# Altium footprint library STLink_V2_Design1.PcbLib: 15 footprints
Each footprint in its own frame and in the unit in brackets; x right, y up, seen from the top. Pads: shape width x height; smd on the part's side, far side on the other; paste and mask are expansions set on the pad; w line width, h text height; cw(c..) or ccw(c..) is an arc to the next point about the centre after c.
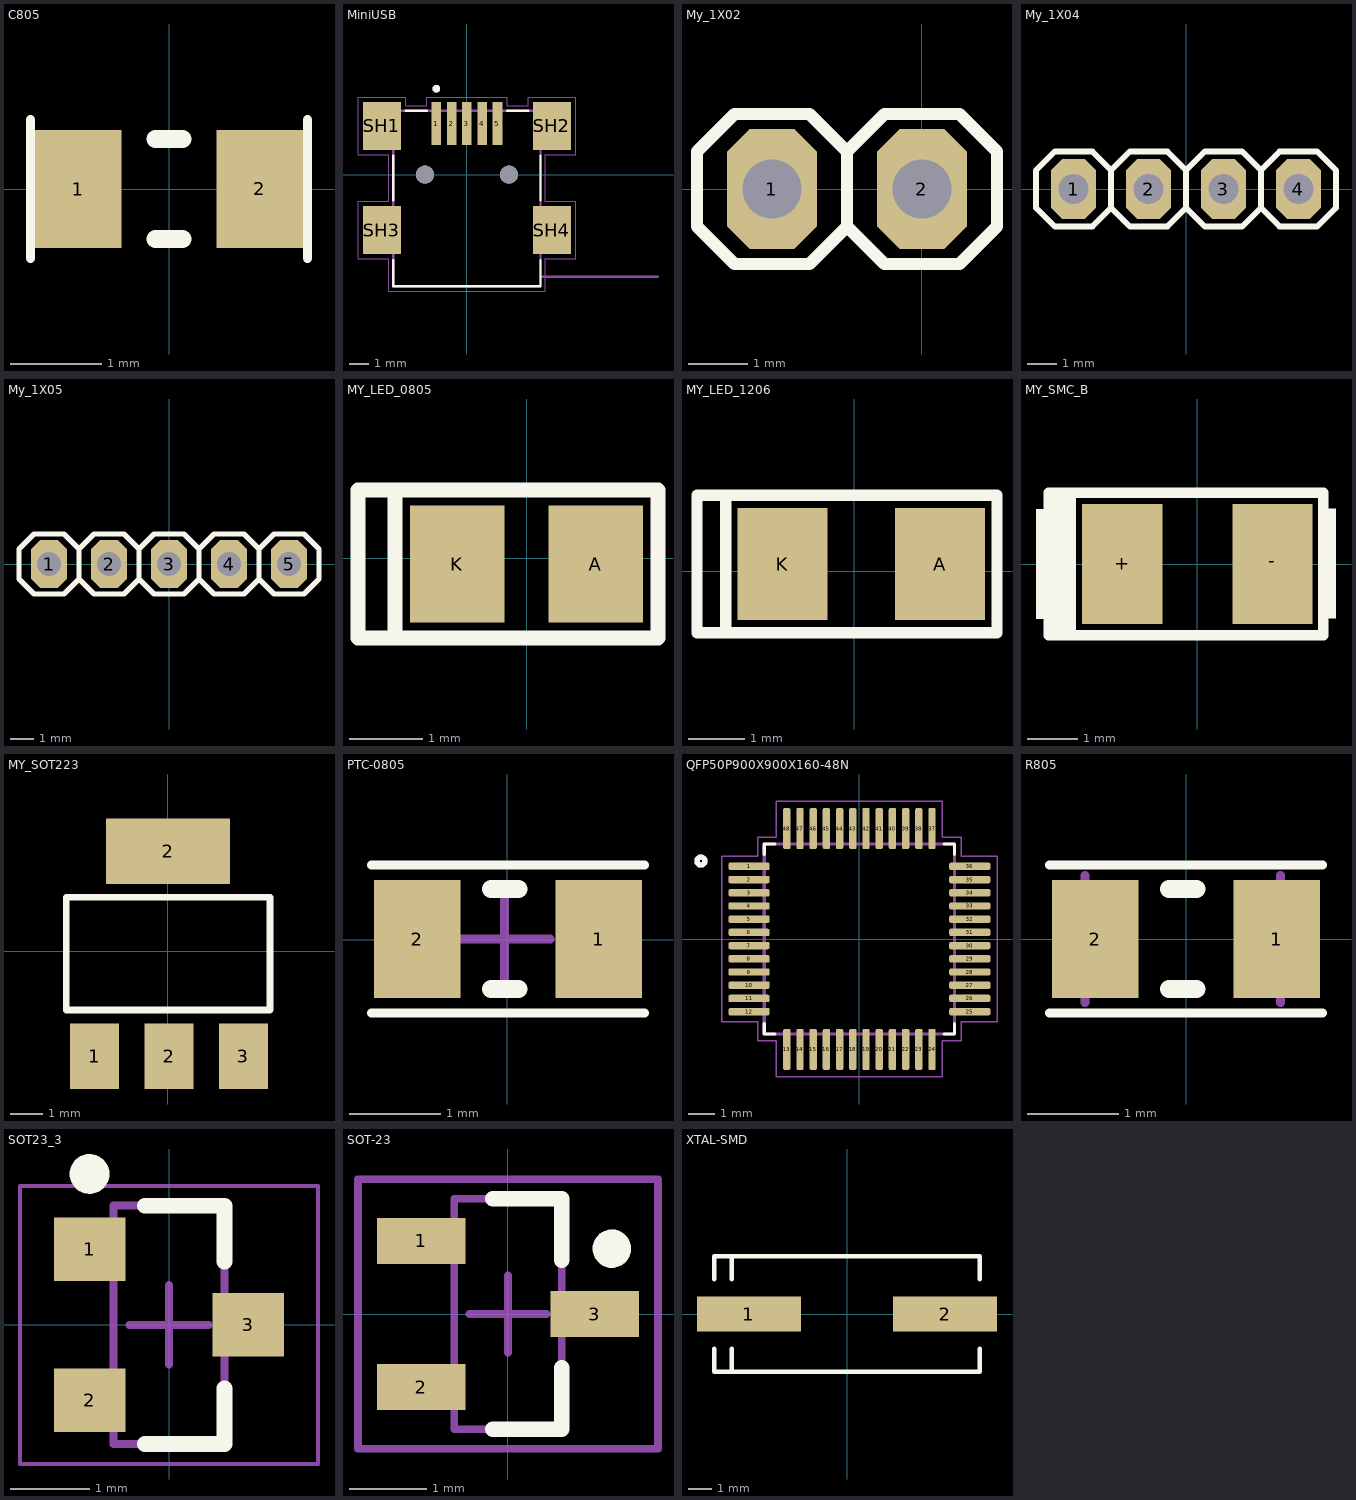
[diagram p0: the footprints below, top view; thin cyan lines are the x and y axes]

## C805 [mm]
pads (2):
  rect 0.95x1.3 smd: 1(-1,0) 2(1,0)
Top Overlay:
  lines w0.1: -1.524,-0.762 -1.524,0.762 ; 1.524,-0.762 1.524,0.762
  lines w0.2: -0.15,-0.55 0.15,-0.55 ; -0.15,0.55 0.15,0.55
3D body "User Library-0805 SMD Resistor (2).SLDPRT": height 0.78, standoff 0, extent -1,-0.625 1,0.625

## MiniUSB [mm]
pads (11):
  rect 0.5x2.25 smd: 1(-1.6,2.675) 2(-0.8,2.675) 3(0,2.675) 4(0.8,2.675) 5(1.6,2.675)
  rect 2x2.5 smd: SH1(-4.45,2.55) SH2(4.45,2.55) SH3(-4.45,-2.9) SH4(4.45,-2.9)
  round 0.95 hole 0.95 unplated: ""(-2.2,0) ""(2.2,0)
Top Overlay:
  circle w0.2: c-1.6,4.5 r0.1
  lines w0.127: -3.85,-4.47 -3.85,-5.85 3.85,-5.85 3.85,-4.47 ; -3.85,-1.33 -3.85,0.98 ; -3.21,3.35 -2.1,3.35 ; 2.1,3.35 3.21,3.35 ; 3.85,-1.33 3.85,0.98
Mechanical 13:
  circle w0.2: c-1.6,4.5 r0.1
  lines w0.127: 10,-5.34 3.85,-5.34 ; 3.85,-5.34 3.85,3.35 -3.85,3.35 -3.85,-5.85 3.85,-5.85 3.85,-5.34
Mechanical 15:
  lines w0.05: -5.7,-4.4 -4.1,-4.4 -4.1,-6.1 4.1,-6.1 4.1,-4.4 5.7,-4.4 5.7,-1.4 4.1,-1.4 4.1,1.05 5.7,1.05 5.7,4.05 3.2,4.05 3.2,3.6 2.1,3.6 2.1,4.05 -2.1,4.05 -2.1,3.6 -3.2,3.6 -3.2,4.05 -5.7,4.05 -5.7,1.05 -4.1,1.05 -4.1,-1.4 -5.7,-1.4 -5.7,-4.4
3D body "step_temp.STEP": height 3.95, standoff -1.05, extent -4.95,-5.85 4.95,3.47

## My_1X02 [mil]
pads (2):
  oct 60x80 hole 39.37: 1(-100,0) 2(0,0)
Top Overlay:
  lines w8: -50,-25 -50,25 ; -50,-25 -75,-50 -125,-50 -150,-25 -150,25 -125,50 -75,50 -50,25 ; -50,-25 -25,-50 25,-50 50,-25 50,25 25,50 -25,50 -50,25
3D body "pin_header_aw140-eg-g02d.stp": height 323.43, standoff -117.51, extent -150,-51.21 46.07,47.22

## My_1X04 [mil]
pads (4):
  oct 60x80 hole 39.37: 1(-150,0) 2(-50,0) 3(50,0) 4(150,0)
Top Overlay:
  lines w8: -100,-25 -100,25 ; -100,-25 -125,-50 -175,-50 -200,-25 -200,25 -175,50 -125,50 -100,25 ; -100,-25 -75,-50 -25,-50 0,-25 ; -100,25 -75,50 -25,50 0,25 ; 0,-25 25,-50 75,-50 100,-25 ; 0,-25 0,25 ; 0,25 25,50 75,50 100,25 ; 100,-25 100,25 ; 100,-25 125,-50 175,-50 200,-25 200,25 175,50 125,50 100,25
3D body "pin_header_aw140-eg-g04d.stp": height 323.43, standoff -117.52, extent -199.99,-49.21 196.07,49.22

## My_1X05 [mil]
pads (5):
  oct 60x80 hole 39.37: 1(-200,0) 2(-100,0) 3(0,0) 4(100,0) 5(200,0)
Top Overlay:
  lines w8: -150,-25 -150,25 ; -150,-25 -175,-50 -225,-50 -250,-25 -250,25 -225,50 -175,50 -150,25 ; -150,-25 -125,-50 -75,-50 -50,-25 ; -150,25 -125,50 -75,50 -50,25 ; -50,-25 -25,-50 25,-50 50,-25 ; -50,-25 -50,25 ; -50,25 -25,50 25,50 50,25 ; 50,-25 50,25 ; 50,-25 75,-50 125,-50 150,-25 ; 50,25 75,50 125,50 150,25 ; 150,-25 150,25 ; 150,-25 175,-50 225,-50 250,-25 250,25 225,50 175,50 150,25
3D body "pin_header_aw140-eg-g05d.stp": height 323.43, standoff -117.52, extent -249.99,-49.2 246.07,49.22

## MY_LED_0805 [mm]
pads (2):
  rect 1.3x1.6 smd: A(0.95,-0.076) K(-0.95,-0.076)
Top Overlay:
  lines w0.203: -2.311,0.94 -2.311,-1.092 -1.803,-1.092 ; -2.286,0.94 -1.803,0.94 ; -1.803,-1.092 -1.803,0.94 ; -1.803,-1.092 1.803,-1.092 1.803,0.94 -1.803,0.94
3D body "SW3dPS-LED SMD0805.STEP": height 0.86, standoff 0.01, extent -1.057,-0.483 1.006,0.424

## MY_LED_1206 [mm]
pads (2):
  rect 1.6x2 smd: A(1.527,0.127) K(-1.273,0.127)
Top Overlay:
  lines w0.203: -2.286,-1.092 2.54,-1.092 2.54,1.346 -2.286,1.346 ; -2.286,-1.092 -2.286,1.346 ; -2.286,-1.092 -2.794,-1.092 -2.794,1.346 -2.286,1.346
3D body "SW3dPS-LED1206R.STEP": height 1.12, standoff -0.4, extent -1.448,-0.711 1.752,0.889

## MY_SMC_B [mm]
pads (2):
  rect 1.6x2.4 smd: +(-1.5,0) -(1.5,0)
Top Overlay:
  rectangle: -3.223,-1.1 -3.023,1.1
  region: 2.769,1.108 2.569,1.108 2.569,-1.092 2.769,-1.092
  rectangle: -3.073,-1.35 -2.423,1.35
  lines w0.203: 2.464,-1.422 -2.972,-1.422 -2.972,1.422 2.464,1.422 ; 2.514,-1.422 2.514,1.422
3D body "SW3dPS-cap_b.STEP": height 1.93, standoff 0.02, extent -1.746,-1.4 1.746,1.4

## MY_SOT223 [mil]
pads (4):
  rect 59x79 smd: 1(-88.65,-126.69) 2(1.35,-126.69) 3(91.35,-126.69)
  rect 150x79 smd: 2(0.35,121.31)
Top Overlay:
  lines w8: -122.64,-70.76 -122.64,65.46 123.34,65.46 123.34,-70.76 -122.64,-70.76
3D body "SW3dPS-SOT-223-1.STEP": height 65.56, standoff 0.6, extent -127.95,-144.79 127.96,130.8

## PTC-0805 [mm]
pads (2):
  rect 0.95x1.3 smd: 1(1.008,0.009) 2(-0.992,0.009)
Top Overlay:
  lines w0.1: -1.492,-0.804 1.508,-0.804 ; -1.492,0.822 1.508,0.822
  lines w0.2: -0.18,-0.541 0.12,-0.541 ; -0.18,0.559 0.12,0.559
Mechanical 15:
  lines w0.1: -0.53,0.009 0.47,0.009 ; -0.03,-0.491 -0.03,0.509
3D body "Part2.SLDPRT": height 0.66, standoff 0, extent -1.075,-0.675 1.075,0.675

## QFP50P900X900X160-48N [mm]
pads (48):
  rrect50% 1.56x0.28 smd: 1(-4.18,2.75) 2(-4.18,2.25) 3(-4.18,1.75) 4(-4.18,1.25) 5(-4.18,0.75) 6(-4.18,0.25) 7(-4.18,-0.25) 8(-4.18,-0.75) 9(-4.18,-1.25) 10(-4.18,-1.75) 11(-4.18,-2.25) 12(-4.18,-2.75) 25(4.18,-2.75) 26(4.18,-2.25) 27(4.18,-1.75) 28(4.18,-1.25) 29(4.18,-0.75) 30(4.18,-0.25) 31(4.18,0.25) 32(4.18,0.75) 33(4.18,1.25) 34(4.18,1.75) 35(4.18,2.25) 36(4.18,2.75)
  rrect50% 0.28x1.56 smd: 13(-2.75,-4.18) 14(-2.25,-4.18) 15(-1.75,-4.18) 16(-1.25,-4.18) 17(-0.75,-4.18) 18(-0.25,-4.18) 19(0.25,-4.18) 20(0.75,-4.18) 21(1.25,-4.18) 22(1.75,-4.18) 23(2.25,-4.18) 24(2.75,-4.18) 37(2.75,4.18) 38(2.25,4.18) 39(1.75,4.18) 40(1.25,4.18) 41(0.75,4.18) 42(0.25,4.18) 43(-0.25,4.18) 44(-0.75,4.18) 45(-1.25,4.18) 46(-1.75,4.18) 47(-2.25,4.18) 48(-2.75,4.18)
Top Overlay:
  circle w0.2: c-6,2.95 r0.15
  lines w0.127: -3.6,-3.21 -3.6,-3.6 -3.21,-3.6 ; -3.6,3.21 -3.6,3.6 -3.21,3.6 ; 3.21,-3.6 3.6,-3.6 3.6,-3.21 ; 3.21,3.6 3.6,3.6 3.6,3.21
Mechanical 13:
  circle w0.2: c-6,2.95 r0.15
  lines w0.127: -3.6,-3.6 3.6,-3.6 3.6,3.6 -3.6,3.6 -3.6,-3.6
Mechanical 15:
  lines w0.05: -5.21,-3.14 -3.85,-3.14 -3.85,-3.85 -3.14,-3.85 -3.14,-5.21 3.14,-5.21 3.14,-3.85 3.85,-3.85 3.85,-3.14 5.21,-3.14 5.21,3.14 3.85,3.14 3.85,3.85 3.14,3.85 3.14,5.21 -3.14,5.21 -3.14,3.85 -3.85,3.85 -3.85,3.14 -5.21,3.14 -5.21,-3.14
3D body "step_temp.STEP": height 1.6, standoff 0, extent -4.5,-4.5 4.5,4.5

## R805 [mm]
pads (2):
  rect 0.95x1.3 smd: 1(1,0) 2(-1,0)
Top Overlay:
  lines w0.1: -1.5,-0.813 1.5,-0.813 ; -1.5,0.813 1.5,0.813
  lines w0.2: -0.188,-0.55 0.112,-0.55 ; -0.188,0.55 0.112,0.55
Mechanical 13:
  lines w0.1: -1.113,-0.7 -1.113,0.7 ; 1.037,-0.7 1.037,0.7
3D body "User Library-0805 SMD Resistor (1).SLDPRT": height 0.78, standoff 0, extent -1,-0.61 1,0.64

## SOT23_3 [mm]
pads (3):
  rect 0.9x0.8 smd: 1(-1,0.95) 2(-1,-0.95) 3(1,0)
Top Overlay:
  circle w0.25: c-1,1.9 r0.125
  lines w0.2: -0.3,-1.5 0.7,-1.5 0.7,-0.8 ; -0.3,1.5 0.7,1.5 0.7,0.8
Mechanical 13:
  lines w0.1: -0.7,-1.5 0.7,-1.5 0.7,1.5 -0.7,1.5 -0.7,-1.5
Mechanical 15:
  lines w0.05: -1.875,-1.75 1.875,-1.75 1.875,1.75 -1.875,1.75 -1.875,-1.75
  lines w0.1: -0.5,0 0.5,0 ; 0,-0.5 0,0.5
3D body "SOT23_3.step": height 1.1, standoff 0, extent -1.25,-1.5 1.25,1.5

## SOT-23 [mm]
pads (3):
  rect 1.15x0.6 smd: 1(-1.125,0.95) 2(-1.125,-0.95) 3(1.125,0)
Top Overlay:
  circle w0.25: c1.35,0.85 r0.125
  lines w0.2: -0.2,-1.5 0.7,-1.5 0.7,-0.7 ; -0.2,1.5 0.7,1.5 0.7,0.7
Mechanical 13:
  lines w0.1: -0.7,-1.5 -0.7,1.5 0.7,1.5 0.7,-1.5 -0.7,-1.5
Mechanical 15:
  lines w0.1: -0.5,0 0.5,0 ; 0,-0.5 0,0.5 ; -1.95,-1.75 -1.95,1.75 1.95,1.75 1.95,-1.75 -1.95,-1.75
3D body "SOT23.STEP": height 1.2, standoff -0.02, extent -1.126,-1.5 1.126,1.5

## XTAL-SMD [mm]
pads (2):
  rect 4.5x1.5 smd: 1(-4.25,0) 2(4.25,0)
Top Overlay:
  lines w0.2: -5.75,-1.5 -5.75,-2.5 5.75,-2.5 5.75,-1.5 ; -5.75,1.5 -5.75,2.5 5.75,2.5 5.75,1.5 ; -5,-2.5 -5,-1.5 ; -5,1.5 -5,2.5
3D body "User Library-HC49_SMD.STEP": height 5.18, standoff 0, extent -6.209,-2.25 6.091,2.25